# EAGLE library part MFS201N−9−Z (library lib)
Switch Slide Switches DPDT thru-hole terminals, ON - ON function, 5.0mm long top actuator
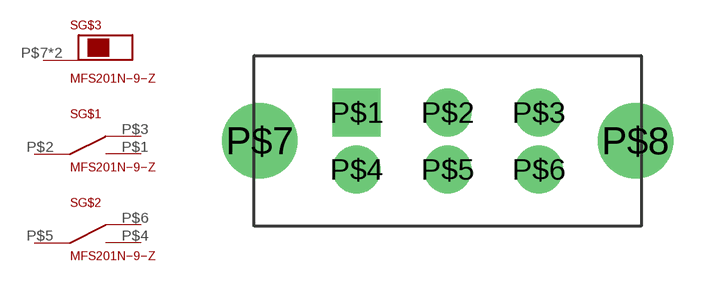
[diagram p4: symbol with the pads of MFS201N-9-Z; footprint MFS201N-9-Z]

Designator prefix S; gates G$1=SWITCH G$2=SWITCH G$3=SWITCH_SHEILD

## MFS201N−9−Z (LINK: https://eu.mouser.com/ProductDetail/Nidec-Copal/MFS201N-9-Z?qs=XeJtXLiO41Ra%252BPt0rLIsIw%3D%3D; MPN: MFS201N−9−Z; SUPPLIER: Mouser)  [MFS201N-9-Z]
P$1  G$1:P$1
P$2  G$1:P$2
P$3  G$1:P$3
P$4  G$2:P$1
P$5  G$2:P$2
P$6  G$2:P$3
P$7  G$3:P$1  pwr
P$8  G$3:P$1  pwr

## Footprint MFS201N-9-Z (pad centres in mm)
drill 1.4 square: P$1 0,0
drill 1.4: P$2 4,0; P$3 8,0; P$4 0,-2.5; P$5 4,-2.5; P$6 8,-2.5
drill 2.3: P$7 -4.25,-1.25; P$8 12.25,-1.25